# Altium schematic symbol library Watch_Components.SCHLIB: 21 symbols
Pins are listed as number, name and electrical type; pins without a type are passive.

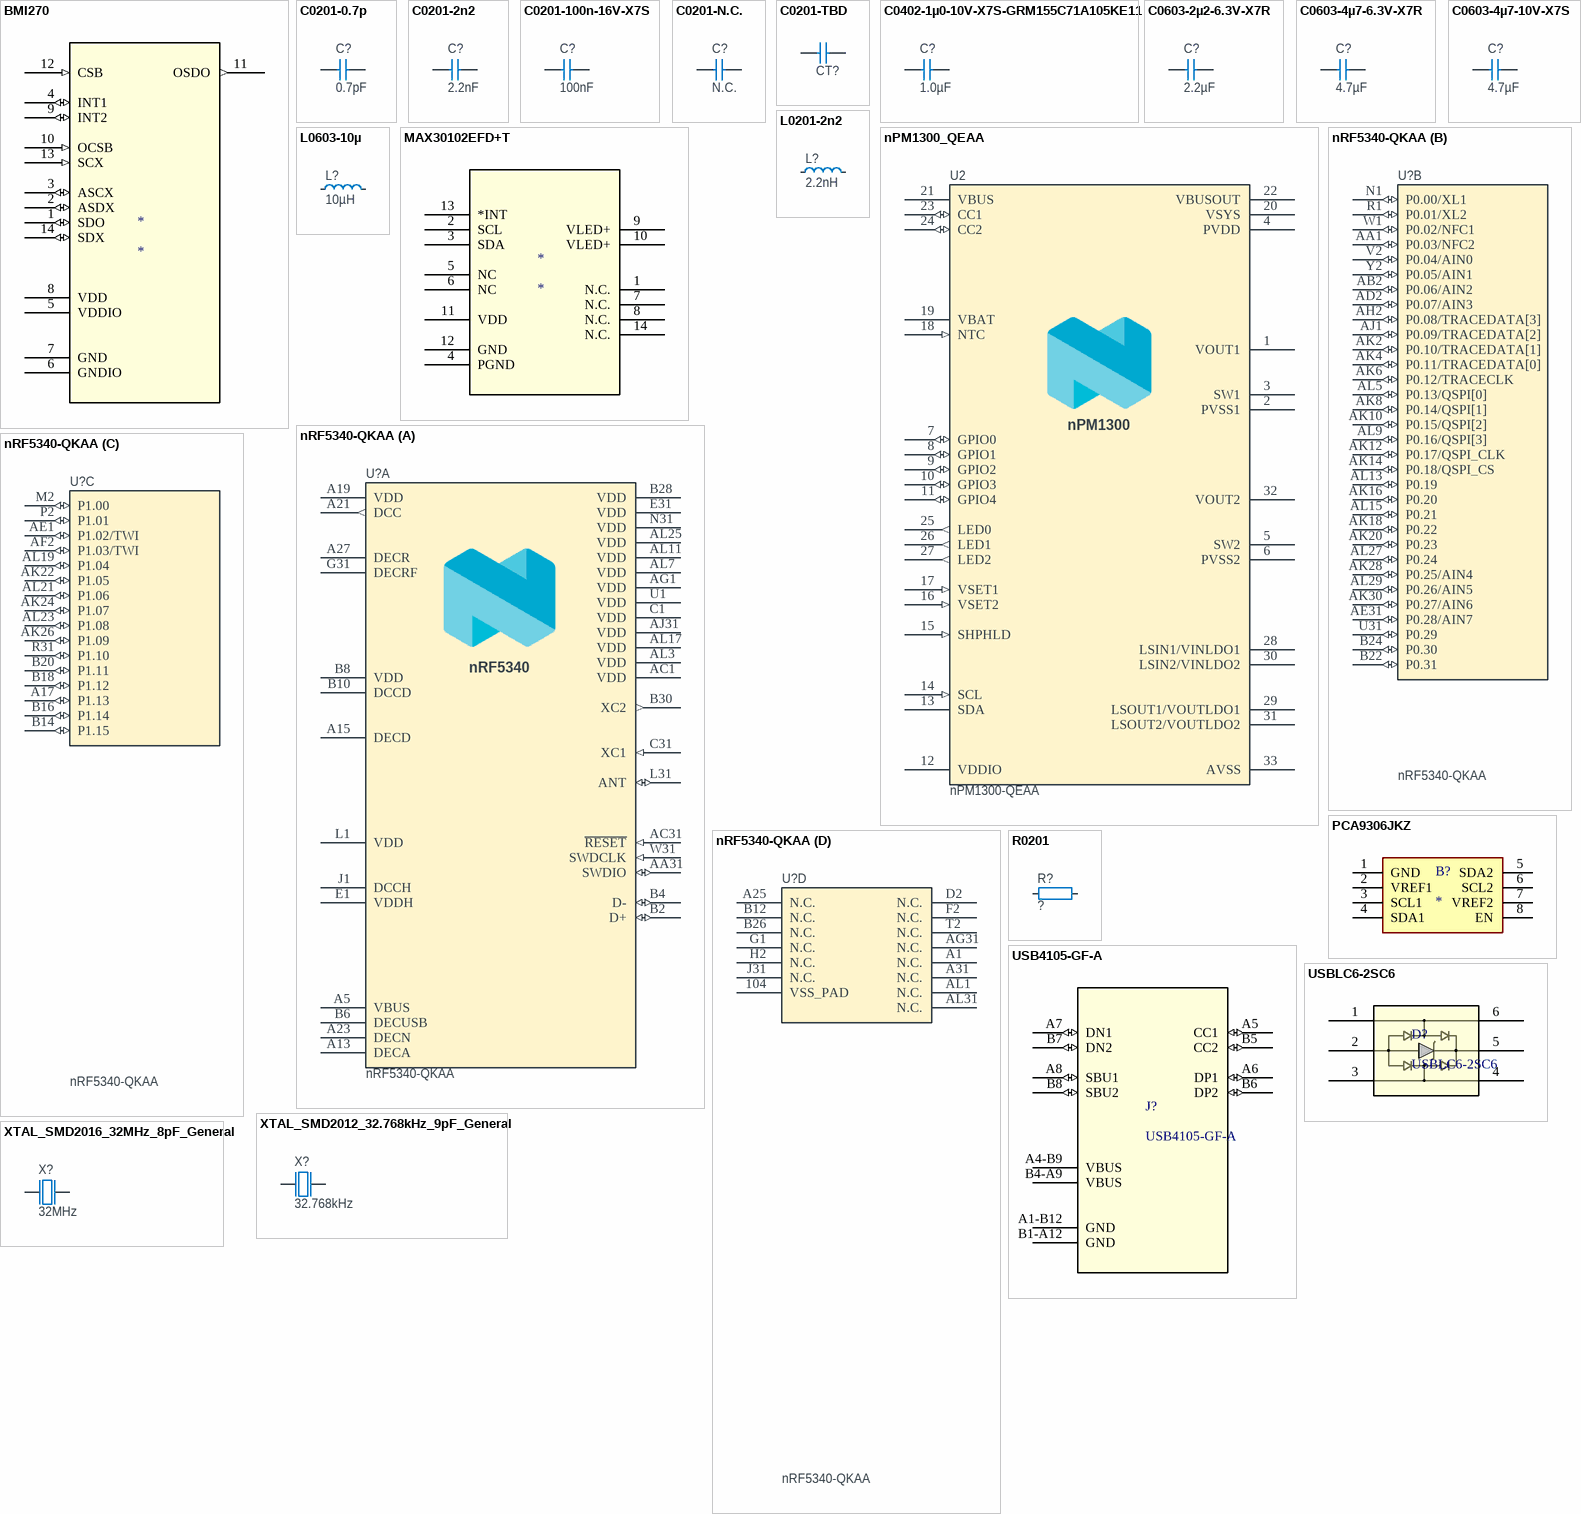
[diagram p0: symbols BMI270 to XTAL_SMD2016_32MHz_8pF_General]

## BMI270
designator *
Inertial Measurement Unit Digital Output 1.8V/2.5V/3.3V Automotive 14-Pin LGA; Manufacturer: Bosch Tools; Manufacturer Part Number: BMI270; Supplier: DigiKey; Supplier Part Number: 828-1091-1-ND; RoHS: Compliant; Category: Sensors; Stock: 35722; Pricing: 1=4.23, 5=3.788, 10=3.624, 25=3.428, 50=3.2942, 100=3.1715, 500=2.92464, 1000=2.8327 (USD); Export Control Classification Number (ECCN) Code: EAR99; Introduction Date: 2019-05-31; Lifecycle Status: Production; REACH SVHC: Yes; ComponentLink1URL: https://datasheet.octopart.com:443/BMI270-Bosch-Tools-datasheet-181206537.pdf?src-supplier=IHS; ComponentLink1Description: https://datasheet.octopart.com:443/BMI270-Bosch-Tools-datasheet-181206537.pdf?src-supplier=IHS; ComponentLink2URL: https://datasheet.octopart.com:443/BMI270-Bosch-Tools-datasheet-136061757.pdf?src-supplier=Future+Electronics; ComponentLink2Description: https://datasheet.octopart.com:443/BMI270-Bosch-Tools-datasheet-136061757.pdf?src-supplier=Future+Electronics
footprint BMI270_BOS
pins: 1 SDO (io), 2 ASDX (io), 3 ASCX (io), 4 INT1 (io), 5 VDDIO, 6 GNDIO, 7 GND, 8 VDD, 9 INT2 (io), 10 OCSB (in), 11 OSDO (out), 12 CSB (in), 13 SCX (in), 14 SDX (io)

## C0201-0.7p
designator C?, comment 0.7pF
Capacitor, NP0, ±0.05pF; Pad Count: 2; Value: 0.7pF; Footprint Doc: 0201; Component Class: Capacitors; Author: rsk
footprint CAPC0603X03L_C
pins: 1, 2

## C0201-2n2
designator C?, comment 2.2nF
Capacitor, X7R, ±10%; Pad Count: 2; Value: 2.2nF; Footprint Doc: 0201; Component Class: Capacitors; Author: rsk
footprint CAPC0603X03L_C
pins: 1, 2

## C0201-100n-16V-X7S
designator C?, comment 100nF
Capacitor, X7S, ±10%; Pad Count: 2; Value: 100nF; Footprint Doc: 0201; Component Class: Capacitors; Author: rsk
footprint CAPC0603X03L_C
pins: 1, 2

## C0201-N.C.
designator C?, comment N.C.
Not mounted; Assembly: Not mounted; Pad Count: 2; Value: N.C.; Footprint Doc: 0201; Component Class: Capacitors; Author: rsk
footprint CAPC0603X03L_C_NC
pins: 1, 2

## C0201-TBD
designator CT?, comment Antenna dependent  (value not drawn)
Capacitor, NP0, ±5%; Pad Count: 2; Footprint Doc: 0201; Value: Antenna dependent; Component Class: Capacitors; Author: rsk
footprint CAPC0603X03L_C
pins: 1, 2

## C0402-1µ0-10V-X7S-GRM155C71A105KE11
designator C?, comment 1.0µF
Capacitor, X7S, ±10%; Pad Count: 2; Value: 1.0µF; Footprint Doc: 0402; Component Class: Capacitors; Author: prbu
footprint CAPC1005X04L
pins: 1, 2

## C0603-2µ2-6.3V-X7R
designator C?, comment 2.2µF
Capacitor, X7R, ±10%; Pad Count: 2; Value: 2.2µF; Footprint Doc: 0603; Component Class: Capacitors; Author: rsk
footprint CAPC1608X06L
pins: 1, 2

## C0603-4µ7-6.3V-X7R
designator C?, comment 4.7µF
Capacitor, X7R, ±10%; Pad Count: 2; Value: 4.7µF; Footprint Doc: 0603; Component Class: Capacitors; Author: rsk
footprint CAPC1608X06L
pins: 1, 2

## C0603-4µ7-10V-X7S
designator C?, comment 4.7µF
Capacitor, X7S, ±10%; Pad Count: 2; Value: 4.7µF; Footprint Doc: 0603; Component Class: Capacitors; Author: rsk
footprint CAPC1608X06L
pins: 1, 2

## L0201-2n2
designator L?, comment 2.2nH
High frequency chip inductor, ±5%; Pad Count: 2; Footprint Doc: 0201; Value: 2.2nH; Component Class: Inductors; Author: rsk
footprint INDC0603X03L_C
pins: 1, 2

## L0603-10µ
designator L?, comment 10µH
Chip Inductor, IDC,min = 50 mA, ±20%; Pad Count: 2; Value: 10µH; Footprint Doc: 0603; Component Class: Inductors; Author: rsk
footprint INDC1608X06L
pins: 1, 2

## MAX30102EFD+T
designator *
High-Sensitivity Pulse Oximeter and Heart-Rate Sensor for Wearable Health; Manufacturer: Analog Devices; Manufacturer Part Number: MAX30102EFD+T; Manufacturer Lifecycle Status: PRODUCTION; Supplier: Newark; Supplier Part Number: MAX30102EFD+T; RoHS: Compliant; Category: Sensors; Stock: 3293; Pricing: 1=14.08, 10=11.09, 25=10.35, 50=10.07, 100=9.81 (USD); Lifecycle Status: Production; Max Operating Temperature: 85°C; Min Operating Temperature: -40°C; Pins: 14; ComponentLink1URL: https://datasheet.octopart.com:443/MAX30102EFD%2BT-Analog-Devices-datasheet-138896825.pdf?src-supplier=Newark; ComponentLink1Description: https://datasheet.octopart.com:443/MAX30102EFD%2BT-Analog-Devices-datasheet-138896825.pdf?src-supplier=Newark; ComponentLink2URL: https://octopart.com:443/opatz8j6/c1?t=lNLdbXEB-8Tfy8yyi4Ep1fg7LQBHMOUji7viRAxOBTnstiUziOP12QkdXpxsJz2gTCdMLFd-o1sQhiq2QGCXJAw1OXoBq43W6EvqANHznVSVXZIvjcOQ14Y9w58vDVvxUyf5yLP6ooKDBR_TMbQokFu0a_69z_GhI_gBgFQO_qOVaRFVU7xfxZqeajADuRKWlhE-FhNjkerkGbayOHC05gfclkqna1nR66NbwE0W05Kd5w-3rkyZdBWpea1K5kTkzC5cc6dy1LvAz2CYcaBGdRuMedz6_0DBNqLseYE7_4nUa2FvBnotLbJr&src-supplier=Analog+Devices; ComponentLink2Description: https://octopart.com:443/opatz8j6/c1?t=lNLdbXEB-8Tfy8yyi4Ep1fg7LQBHMOUji7viRAxOBTnstiUziOP12QkdXpxsJz2gTCdMLFd-o1sQhiq2QGCXJAw1OXoBq43W6EvqANHznVSVXZIvjcOQ14Y9w58vDVvxUyf5yLP6ooKDBR_TMbQokFu0a_69z_GhI_gBgFQO_qOVaRFVU7xfxZqeajADuRKWlhE-FhNjkerkGbayOHC05gfclkqna1nR66NbwE0W05Kd5w-3rkyZdBWpea1K5kTkzC5cc6dy1LvAz2CYcaBGdRuMedz6_0DBNqLseYE7_4nUa2FvBnotLbJr&src-supplier=Analog+Devices; ComponentLink3URL: https://sigma.octopart.com:443/140085706/technical_drawing/Maxim-Integrated-MAX30102EFD%2BT.pdf?src-supplier=ShanghaiCT; ComponentLink3Description: https://sigma.octopart.com:443/140085706/technical_drawing/Maxim-Integrated-MAX30102EFD%2BT.pdf?src-supplier=ShanghaiCT; ComponentLink4URL: https://datasheet.octopart.com:443/MAX30102EFD%2BT-Maxim-Integrated-datasheet-65703272.pdf?src-supplier=Future+Electronics; ComponentLink4Description: https://datasheet.octopart.com:443/MAX30102EFD%2BT-Maxim-Integrated-datasheet-65703272.pdf?src-supplier=Future+Electronics; ComponentLink5URL: http://sigma.octopart.com:80/conflict_mineral_statement/Analog-Devices-company-33.pdf?src-supplier=Compliance+Statements; ComponentLink5Description: http://sigma.octopart.com:80/conflict_mineral_statement/Analog-Devices-company-33.pdf?src-supplier=Compliance+Statements; ComponentLink6URL: http://sigma.octopart.com:80/reach_statement/Maxim-Integrated-company-67.pdf?src-supplier=Compliance+Statements; ComponentLink6Description: http://sigma.octopart.com:80/reach_statement/Maxim-Integrated-company-67.pdf?src-supplier=Compliance+Statements; ComponentLink7URL: http://sigma.octopart.com:80/rohs_statement/Maxim-Integrated-company-66.pdf?src-supplier=Compliance+Statements; ComponentLink7Description: http://sigma.octopart.com:80/rohs_statement/Maxim-Integrated-company-66.pdf?src-supplier=Compliance+Statements; ComponentLink8URL: http://sigma.octopart.com:80/conflict_mineral_statement/Maxim-Integrated-company-65.pdf?src-supplier=Compliance+Statements; ComponentLink8Description: http://sigma.octopart.com:80/conflict_mineral_statement/Maxim-Integrated-company-65.pdf?src-supplier=Compliance+Statements; ComponentLink9URL: https://octopart.com:443/opatz8j6/c1?t=GsCt6aUpOQZgLTAwy0RBe6VsdHe-YM9CHSfZbpG2BIHTLL6za4yMq7SeTLKgtsalxQzcPM4gwltrYJQATWSkjq-ZOauWDS99dmEtuyDrm5CMyiSwn4YVYgrc5-8zEVaZQwsVrbhWgf4IihAwKWxSwuC3IuAlEmd_BDG_ezWI42kw2SprHEToFG0VN0FjC_hwMAdTZF1mnz1-AXLMt1O2U-REnbHhwnY4I5_cRgWL3NsbmJbHfrYGaigF3NkWMAVHGLmDUv6I_DszeMkKCRV1y439GhWoj1xfZe8LgWUXVUrh8MonsIarQGZ5&src-supplier=Compliance+Statements; ComponentLink9Description: https://octopart.com:443/opatz8j6/c1?t=GsCt6aUpOQZgLTAwy0RBe6VsdHe-YM9CHSfZbpG2BIHTLL6za4yMq7SeTLKgtsalxQzcPM4gwltrYJQATWSkjq-ZOauWDS99dmEtuyDrm5CMyiSwn4YVYgrc5-8zEVaZQwsVrbhWgf4IihAwKWxSwuC3IuAlEmd_BDG_ezWI42kw2SprHEToFG0VN0FjC_hwMAdTZF1mnz1-AXLMt1O2U-REnbHhwnY4I5_cRgWL3NsbmJbHfrYGaigF3NkWMAVHGLmDUv6I_DszeMkKCRV1y439GhWoj1xfZe8LgWUXVUrh8MonsIarQGZ5&src-supplier=Compliance+Statements
footprint 21-1048_F143A5+1_MXM
pins: 1 N.C., 2 SCL, 3 SDA, 4 PGND (power), 5 NC, 6 NC, 7 N.C., 8 N.C., 9 VLED+, 10 VLED+, 11 VDD (power), 12 GND (power), 13 *INT, 14 N.C.

## nPM1300_QEAA
designator U2, comment nPM1300-QEAA
Li-Ion/Li-Polymer USB-C battery charger with high efficiency buck regulators, LDOs or load switches, LED drivers, TWI and VBUSOUT; Manufacturer: Nordic Semiconductor; Part number NEMS: 102000291; Component Status: Active; Pad Count: 33; Note: N.A.; Part Number: nPM1300-QEAA; PartId: 102000291; Component Class: Nordic_Devices; Author: eisk; Manufacturer Part Number: nPM1300-QEAA; ComponentLink1URL: N.A.; ComponentLink1Description: Datasheet; ComponentLink2URL: N.A.; ComponentLink2Description: Supplier link; HelpURL: N.A.; LatestRevisionDate: 2023-05-25; Published: 2022-02-17; Footprint Doc: QFN-32; Value: nPM1300-QEAA; Supplier 1: Nordic Semiconductor; Supplier Part Number 1: nPM1300-QEAA; Supplier 2: N.A.; Supplier Part Number 2: N.A.; Artikkelnr Noca: N.A.; Part number IPS: N.A.; Part number Norautron: N.A.
footprint QFN32_5X5_NOR
pins: 1 VOUT1, 2 PVSS1 (power), 3 SW1 (power), 4 PVDD, 5 SW2 (power), 6 PVSS2 (power), 7 GPIO0 (io), 8 GPIO1 (io), 9 GPIO2 (io), 10 GPIO3 (io), 11 GPIO4 (io), 12 VDDIO (power), 13 SDA (oc), 14 SCL (in), 15 SHPHLD (in), 16 VSET2 (in), 17 VSET1 (in), 18 NTC (in), 19 VBAT, 20 VSYS, 21 VBUS, 22 VBUSOUT, 23 CC1 (io), 24 CC2 (io), 25 LED0 (out), 26 LED1 (out), 27 LED2 (out), 28 LSIN1/VINLDO1, 29 LSOUT1/VOUTLDO1, 30 LSIN2/VINLDO2, 31 LSOUT2/VOUTLDO2, 32 VOUT2, 33 AVSS (power)
text: nPM1300

## nRF5340-QKAA
designator U?
Multi-protocol Bluetooth Low Energy, IEEE 802.15.4, ANT and 2.4GHz proprietary system-on-chip; Pad Count: 98; Footprint Doc: AQFN-98; Value: nRF5340-QKAA; Component Class: nRF_Devices
footprint AQFN40P700X700X85_HS-99N
part A pins: A5 VBUS, A13 DECA (power), A15 DECD (power), A19 VDD, A21 DCC (out), A23 DECN (power), A27 DECR (power), AA31 SWDIO (io), AC1 VDD, AC31 ~{RESET} (in), AG1 VDD, AJ31 VDD, AL3 VDD, AL7 VDD, AL11 VDD, AL17 VDD, AL25 VDD, B2 D+ (io), B4 D- (io), B6 DECUSB (power), B8 VDD, B10 DCCD (power), B28 VDD, B30 XC2 (out), C1 VDD, C31 XC1 (in), E1 VDDH, E31 VDD, G31 DECRF (power), J1 DCCH (power), L1 VDD, L31 ANT (io), N31 VDD, U1 VDD, W31 SWDCLK (in)
part B pins: AA1 P0.03/NFC2 (io), AB2 P0.06/AIN2 (io), AD2 P0.07/AIN3 (io), AE31 P0.28/AIN7 (io), AH2 P0.08/TRACEDATA[3] (io), AJ1 P0.09/TRACEDATA[2] (io), AK2 P0.10/TRACEDATA[1] (io), AK4 P0.11/TRACEDATA[0] (io), AK6 P0.12/TRACECLK (io), AK8 P0.14/QSPI[1] (io), AK10 P0.15/QSPI[2] (io), AK12 P0.17/QSPI_CLK (io), AK14 P0.18/QSPI_CS (io), AK16 P0.20 (io), AK18 P0.22 (io), AK20 P0.23 (io), AK28 P0.25/AIN4 (io), AK30 P0.27/AIN6 (io), AL5 P0.13/QSPI[0] (io), AL9 P0.16/QSPI[3] (io), AL13 P0.19 (io), AL15 P0.21 (io), AL27 P0.24 (io), AL29 P0.26/AIN5 (io), B22 P0.31 (io), B24 P0.30 (io), N1 P0.00/XL1 (io), R1 P0.01/XL2 (io), U31 P0.29 (io), V2 P0.04/AIN0 (io), W1 P0.02/NFC1 (io), Y2 P0.05/AIN1 (io)
part C pins: A17 P1.13 (io), AE1 P1.02/TWI (io), AF2 P1.03/TWI (io), AK22 P1.05 (io), AK24 P1.07 (io), AK26 P1.09 (io), AL19 P1.04 (io), AL21 P1.06 (io), AL23 P1.08 (io), B14 P1.15 (io), B16 P1.14 (io), B18 P1.12 (io), B20 P1.11 (io), M2 P1.00 (io), P2 P1.01 (io), R31 P1.10 (io)
part D pins: 104 VSS_PAD (power), A1 N.C., A25 N.C., A31 N.C., AG31 N.C., AL1 N.C., AL31 N.C., B12 N.C., B26 N.C., D2 N.C., F2 N.C., G1 N.C., H2 N.C., J31 N.C., T2 N.C.
part A text: nRF5340

## PCA9306JKZ
designator B?
Dual Supply bidirectional I2C-bus and SMBus voltage-level translator; Manufacturer: NXP Semiconductors; Manufacturer Part Number: PCA9306JKZ; Max Supply Voltage: 3.6V; Min Supply Voltage: 0V; Nominal Supply Voltage (DC): 1.2V; Number of Bits: 1; Propagation Delay: 3.3ns; Supplier: Arrow Electronics; Supplier Part Number: PCA9306JKZ; RoHS: Compliant; Category: Voltage Level Shifters; Stock: 18000; Pricing: 6000=0.3053, 12000=0.2988, 18000=0.2948 (USD); China RoHS: Compliant; Height - Seated (Max): 500µm; Length: 1.35mm; Lifecycle Status: Production; Max Operating Temperature: 105°C; Min Operating Temperature: -40°C; Number of Circuits: 1; Number of Terminals: 8; REACH SVHC: Yes; Terminal Pitch: 350µm; Width: 1mm; ComponentLink1URL: https://datasheet.octopart.com:443/PCA9306JKZ-NXP-Semiconductors-datasheet-180940845.pdf?src-supplier=IHS; ComponentLink1Description: https://datasheet.octopart.com:443/PCA9306JKZ-NXP-Semiconductors-datasheet-180940845.pdf?src-supplier=IHS; ComponentLink2URL: https://datasheet.octopart.com:443/PCA9306JKZ-NXP-Semiconductors-datasheet-24570114.pdf?src-supplier=Future+Electronics; ComponentLink2Description: https://datasheet.octopart.com:443/PCA9306JKZ-NXP-Semiconductors-datasheet-24570114.pdf?src-supplier=Future+Electronics; ComponentLink3URL: http://sigma.octopart.com:80/reach_statement/NXP-Semiconductors-company-13.pdf?src-supplier=Compliance+Statements; ComponentLink3Description: http://sigma.octopart.com:80/reach_statement/NXP-Semiconductors-company-13.pdf?src-supplier=Compliance+Statements; ComponentLink4URL: http://sigma.octopart.com:80/rohs_statement/NXP-Semiconductors-company-12.pdf?src-supplier=Compliance+Statements; ComponentLink4Description: http://sigma.octopart.com:80/rohs_statement/NXP-Semiconductors-company-12.pdf?src-supplier=Compliance+Statements; Supplier 1: DigiKey; Supplier Part Number 1: 568-PCA9306JKZCT-ND
footprint PCA9306JKZ
pins: 1 GND, 2 VREF1, 3 SCL1, 4 SDA1, 5 SDA2, 6 SCL2, 7 VREF2, 8 EN

## R0201
designator R?, comment ?
Resistor, ±1%, 0.05W; Pad Count: 2; Footprint Doc: 0201; Value: ?; Component Class: Resistors; Author: rsk
footprint RESC0603X03L_C
pins: 1, 2

## USB4105-GF-A
designator J?
USB Connector, 24 Contact(s), Female, Right Angle, Solder Terminal, Locking, Receptacle; Manufacturer: Global Connector Technology; Contact Resistance: 50mΩ; Current Rating: 6.25A; Dielectric Material: Liquid Crystal Polymer; Insulation Resistance: 100MΩ; Number of Contacts: 16; Number of Ports: 1; Number of Positions: 24; USB Standard: USB 2.0; Voltage Rating: 20V; Supplier: DigiKey; Supplier Part Number: 2073-USB4105-GF-ACT-ND; Manufacturer Part Number: USB4105-GF-A; RoHS: Compliant; Category: USB Connectors; Stock: 151521; Pricing: 1=0.8, 10=0.676, 25=0.6336, 50=0.6034, 100=0.5745, 250=0.53848, 800=0.49603, 1600=0.47234, 2400=0.45903, 4000=0.44278, 5600=0.43239, 8000=0.42165 (USD); China RoHS: Compliant; Contact Material: Gold, Nickel; Country of Origin: Mainland China; Export Control Classification Number (ECCN) Code: EAR99; Gender: Female; Height: 3.46mm; Harmonized Tariff Schedule (HTS) Code: 8536.69.40.30; Insulation Color: Black; Introduction Date: 2021-04-29; Lifecycle Status: Production; Max Operating Temperature: 85°C; Min Operating Temperature: -40°C; Pins: 16; Number of Rows: 1; Orientation: Right Angle; REACH SVHC: Yes; Shell Finish: Nickel; Shell Material: Stainless Steel; Terminal Pitch: 500µm; ComponentLink1URL: https://datasheet.octopart.com:443/USB4105-GF-A-GCT-datasheet-166929323.pdf?src-supplier=SOS+electronic; ComponentLink1Description: https://datasheet.octopart.com:443/USB4105-GF-A-GCT-datasheet-166929323.pdf?src-supplier=SOS+electronic; ComponentLink2URL: https://datasheet.octopart.com:443/USB4105-GF-A-GCT-datasheet-188935996.pdf?src-supplier=TME; ComponentLink2Description: https://datasheet.octopart.com:443/USB4105-GF-A-GCT-datasheet-188935996.pdf?src-supplier=TME; ComponentLink3URL: https://datasheet.octopart.com:443/USB4105-GF-A-GCT-datasheet-188869076.pdf?src-supplier=TME; ComponentLink3Description: https://datasheet.octopart.com:443/USB4105-GF-A-GCT-datasheet-188869076.pdf?src-supplier=TME; ComponentLink4URL: https://datasheet.octopart.com:443/USB4105-GF-A-GCT-datasheet-166927665.pdf?src-supplier=TME; ComponentLink4Description: https://datasheet.octopart.com:443/USB4105-GF-A-GCT-datasheet-166927665.pdf?src-supplier=TME; Supplier 1: DigiKey; Supplier Part Number 1: 2073-USB4105-GF-ACT-ND
footprint USB4105_GCT
pins: A1-B12 GND (power), A4-B9 VBUS, A5 CC1 (io), A6 DP1 (io), A7 DN1 (io), A8 SBU1 (io), B1-A12 GND (power), B4-A9 VBUS, B5 CC2 (io), B6 DP2 (io), B7 DN2 (io), B8 SBU2 (io)

## USBLC6-2SC6
designator D?
5A 17V 6V Unidirectional 5.25V SOT-23-6 ESD and Surge Protection (TVS/ESD) ROHS; Manufacturer: STMicroelectronics; Value: 2.5pF; Data Rate: 480Mbps; Element Configuration: Dual; ESD Protection: Yes; Forward Voltage: 1.1V; Leakage Current: 150nA; Max Junction Temperature (Tj): 125°C; Number of Bidirectional Channels: 2; Number of Elements: 1; Reverse Standoff Voltage: 5V; Test Current: 1mA; Supplier: Future Electronics; Supplier Part Number: USBLC6-2SC6; Manufacturer Part Number: USBLC6-2SC6; RoHS: Compliant; Category: TVS Diodes; Stock: 120000; Pricing: 3000=0.0806, 6000=0.0793, 12000=0.078, 15000=0.0776, 45000=0.075 (USD); Breakdown Voltage: 6V; Case/Package: SOT-23; China RoHS: Compliant; Clamping Voltage: 17V; Contact Plating: Tin; Country of Origin: Mainland China; Depth: 1.75mm; Direction: Unidirectional; Export Control Classification Number (ECCN) Code: EAR99; Height: 1.45mm; Harmonized Tariff Schedule (HTS) Code: 8541.10.00.50; Introduction Date: 2005-03-15; Lead Free: Lead Free; Length: 3.05mm; Lifecycle Status: Production; Max Breakdown Voltage: 6V; Max Operating Temperature: 125°C; Max Repetitive Reverse Voltage (Vrrm): 5.25V; Max Reverse Leakage Current: 150nA; Min Breakdown Voltage: 6V; Min Operating Temperature: -40°C; Mounting Technology: Surface Mount; Number of Channels: 2; Pins: 6; Number of Terminals: 6; Operating Supply Voltage: 1.1V; Peak Pulse Current: 5A; Peak Reverse Current: 150nA; Polarity: Unidirectional; Power Line Protection: Yes; Radiation Hardening: No; REACH SVHC: Yes; Reverse Breakdown Voltage: 6V; Schedule B: 8536300000, 8536300000|8536300000|8536300000|8536300000|8536300000|8536300000|8536300000|8536300000|8536300000|8536300000|8536300000|8536300000|8536300000|8536300000|8536300000|8536300000|8536300000|8536300000|8536300000|8536300000|8536300000|8536300000|8536300000|85; Termination: SMD/SMT; Width: 1.75mm; Working Voltage: 5V; ComponentLink1URL: https://datasheet.octopart.com:443/USBLC6-2SC6-STMicroelectronics-datasheet-10412581.pdf?src-supplier=Newark; ComponentLink1Description: https://datasheet.octopart.com:443/USBLC6-2SC6-STMicroelectronics-datasheet-10412581.pdf?src-supplier=Newark; ComponentLink2URL: https://datasheet.octopart.com:443/USBLC6-2SC6-STMicroelectronics-datasheet-181961833.pdf?src-supplier=Newark; ComponentLink2Description: https://datasheet.octopart.com:443/USBLC6-2SC6-STMicroelectronics-datasheet-181961833.pdf?src-supplier=Newark; ComponentLink3URL: https://datasheet.octopart.com:443/USBLC6-2SC6-STMicroelectronics-datasheet-525477.pdf?src-supplier=Factory+Futures; ComponentLink3Description: https://datasheet.octopart.com:443/USBLC6-2SC6-STMicroelectronics-datasheet-525477.pdf?src-supplier=Factory+Futures; ComponentLink4URL: https://datasheet.octopart.com:443/USBLC6-2SC6-STMicroelectronics-datasheet-82998616.pdf?src-supplier=Farnell; ComponentLink4Description: https://datasheet.octopart.com:443/USBLC6-2SC6-STMicroelectronics-datasheet-82998616.pdf?src-supplier=Farnell; ComponentLink5URL: https://datasheet.octopart.com:443/USBLC6-2SC6-STMicroelectronics-datasheet-46285.pdf?src-supplier=Farnell; ComponentLink5Description: https://datasheet.octopart.com:443/USBLC6-2SC6-STMicroelectronics-datasheet-46285.pdf?src-supplier=Farnell; ComponentLink6URL: https://datasheet.octopart.com:443/USBLC6-2SC6-STMicroelectronics-datasheet-14050643.pdf?src-supplier=iiiC; ComponentLink6Description: https://datasheet.octopart.com:443/USBLC6-2SC6-STMicroelectronics-datasheet-14050643.pdf?src-supplier=iiiC; ComponentLink7URL: https://datasheet.octopart.com:443/USBLC6-2SC6-STMicroelectronics-datasheet-10521292.pdf?src-supplier=Jameco; ComponentLink7Description: https://datasheet.octopart.com:443/USBLC6-2SC6-STMicroelectronics-datasheet-10521292.pdf?src-supplier=Jameco
footprint SOT23-6L_STM
pins: 1, 2, 3, 4, 5, 6

## XTAL_SMD2012_32.768kHz_9pF_General
designator X?, comment 32.768kHz
XTAL SMD 2012, 32.768kHz, Cl=9pF, Total Tol: ±50ppm; Pad Count: 2; Value: 32.768kHz; Footprint Doc: XTAL_2012; Component Class: Oscillators; Author: rsk
footprint XTAL_2012
pins: 1 inp, 2 out

## XTAL_SMD2016_32MHz_8pF_General
designator X?, comment 32MHz
XTAL SMD 2016, 32MHz, Cl=8pF, Total Tol: ±30ppm; Pad Count: 4; Value: 32MHz; Footprint Doc: XTAL_2016; Component Class: Oscillators; Author: rsk
footprint BT-XTAL_2016
pins: 1 inp, 2 GND hidden to GND, 3 out, 4 GND hidden to GND